# Altium footprint library Devices.PcbLib: 190 footprints (part 1 of 12)
Each footprint in its own frame and in the unit in brackets; x right, y up, seen from the top. Pads: shape width x height; smd on the part's side, far side on the other; paste and mask are expansions set on the pad; w line width, h text height; cw(c..) or ccw(c..) is an arc to the next point about the centre after c.
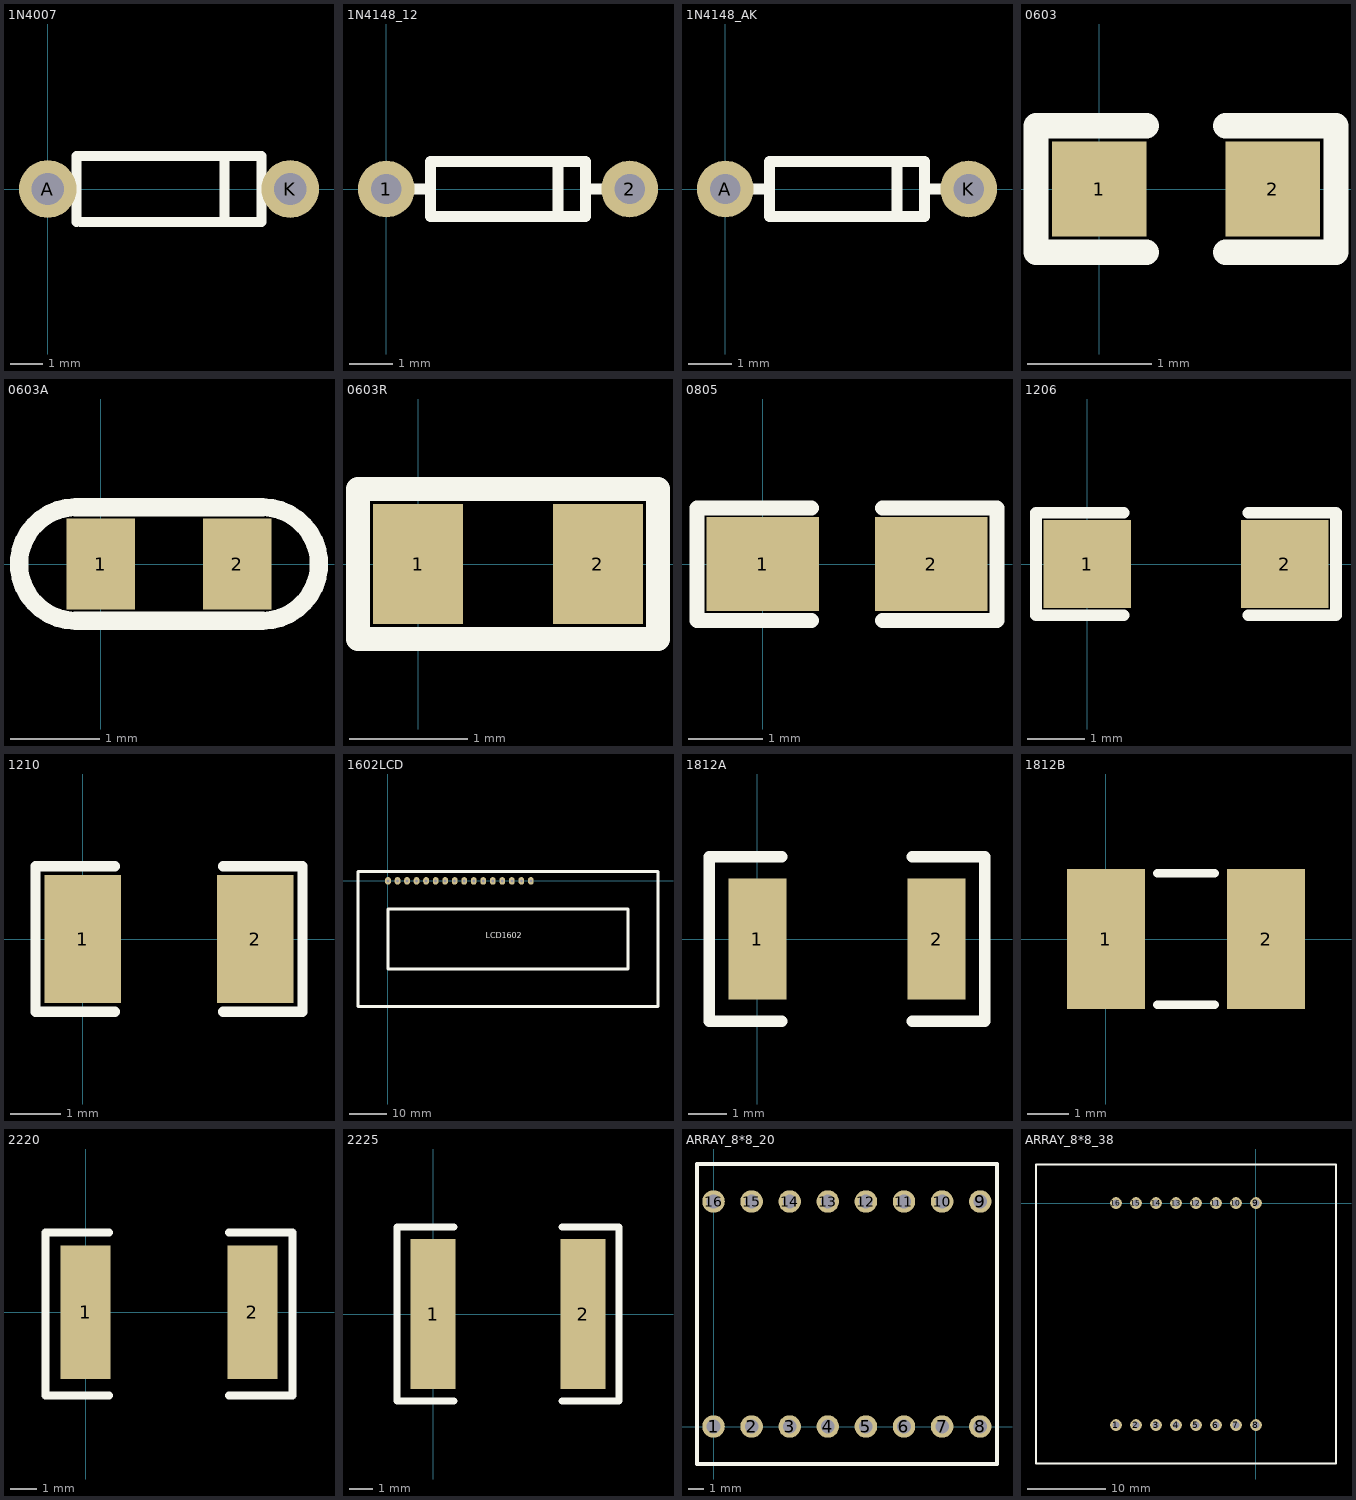
[diagram p0: the footprints below, top view; thin cyan lines are the x and y axes]

## 1N4007 [mil]
pads (2):
  round 70 hole 39.37: A(0,0) K(295,0)
Top Overlay:
  lines w12: 35,-40 35,40 260,40 260,-40 40,-40 ; 215,-40 215,40

## 1N4148_12 [mm]
pads (2):
  round 1.3 hole 0.7: 1(0,0) 2(5.588,0)
Top Overlay:
  lines w0.254: 0.635,0 1.016,0 ; 3.937,0.508 3.937,-0.635 3.937,0.635 ; 4.572,0 5.08,0 ; 1.016,-0.635 4.572,-0.635 4.572,0.635 1.016,0.635 1.016,-0.635

## 1N4148_AK [mm]
pads (2):
  round 1.3 hole 0.7: A(0,0) K(5.588,0)
Top Overlay:
  lines w0.254: 0.635,0 1.016,0 ; 3.937,0.508 3.937,-0.635 3.937,0.635 ; 4.572,0 5.08,0 ; 1.016,-0.635 1.016,0.635 4.572,0.635 4.572,-0.635 1.016,-0.635

## 0603 [mil]
pads (2):
  rect 30x30 smd: 1(0,0) 2(55,0)
Top Overlay:
  lines w8: 15,-20 -20,-20 -20,20 15,20 ; 40,-20 75,-20 75,20 40,20

## 0603A [mil]
pads (2):
  rect 30x40 smd: 1(0,0) 2(60,0)
Top Overlay:
  lines w8: -11,-25 cw(c-11,0) -11,25 71,25 cw(c71,0) 71,-25 -11,-25

## 0603R [mil]
pads (2):
  rect 30x40 smd: 1(0,0) 2(60,0)
Top Overlay:
  lines w8: -20,-25 80,-25 80,25 -20,25 -20,-25

## 0805 [mil]
pads (2):
  rect 60x50 smd: 1(0,0) 2(90,0)
Top Overlay:
  lines w8: 26,-30 -35,-30 -35,30 26,30 ; 64,-30 125,-30 125,30 64,30

## 1206 [mil]
pads (2):
  rect 60x60 smd: 1(0,0) 2(135,0)
Top Overlay:
  lines w8: 25,-35 -35,-35 -35,35 25,35 ; 110,-35 170,-35 170,35 110,35

## 1210 [mil]
pads (2):
  rect 60x100 smd: 1(0,0) 2(135,0)
Top Overlay:
  lines w8: 25,-57 -37,-57 -37,57 25,57 ; 110,-57 172,-57 172,57 110,57

## 1602LCD [mil] "LCD module 16*2 char"
pads (16):
  oval 60x80 hole 30: 1(0,0) 2(100,0) 3(200,0) 4(300,0) 5(400,0) 6(500,0) 7(600,0) 8(700,0) 9(800,0) 10(900,0) 11(1000,0) 12(1100,0) 13(1200,0) 14(1300,0) 15(1400,0) 16(1500,0)
Top Overlay:
  lines w30: -314.96,-1318.9 2834.65,-1318.9 2834.65,98.43 -314.96,98.43 -314.96,-1318.9 ; 0,-925.2 2519.69,-925.2 2519.69,-295.28 0,-295.28 0,-925.2
  text "LCD1602" at 1025.04,-601.57 h60

## 1812A [mil]
pads (2):
  rect 60x125 smd: 1(0,0) 2(185,0)
Top Overlay:
  lines w12: 25,-85 -50,-85 -50,85 25,85 ; 160,-85 235,-85 235,85 160,85

## 1812B [mm] "Chip Capacitor; Body 4.5 x 3.2 mm (LxW typ)"
height 1.1
pads (2):
  rect 1.9x3.4 smd: 1(0,0) 2(3.9,0)
Top Overlay:
  lines w0.2: 1.25,-1.6 2.65,-1.6 ; 1.25,1.6 2.65,1.6

## 2220 [mm]
pads (2):
  rect 1.905x5.08 smd: 1(0,0) 2(6.35,0)
Top Overlay:
  lines w0.305: 0.889,-3.175 -1.524,-3.175 -1.524,3.048 0.889,3.048 ; 5.461,-3.175 7.874,-3.175 7.874,3.048 5.461,3.048

## 2225 [mm]
pads (2):
  rect 1.905x6.35 smd: 1(0,0) 2(6.35,0)
Top Overlay:
  lines w0.305: 0.889,-3.683 -1.524,-3.683 -1.524,3.683 0.889,3.683 ; 5.461,-3.683 7.874,-3.683 7.874,3.683 5.461,3.683

## ARRAY_8*8_20 [mm]
height 6.7
pads (16):
  round 1.5 hole 0.9: 1(0,0) 2(2.54,0) 3(5.08,0) 4(7.62,0) 5(10.16,0) 6(12.7,0) 7(15.24,0) 8(17.78,0) 9(17.78,15) 10(15.24,15) 11(12.7,15) 12(10.16,15) 13(7.62,15) 14(5.08,15) 15(2.54,15) 16(0,15)
Top Overlay:
  lines w0.254: -1.1,-2.5 18.9,-2.5 18.9,17.5 -1.1,17.5 -1.1,-2.5

## ARRAY_8*8_38 [mm]
height 6.7
pads (16):
  round 1.5 hole 0.9: 1(-17.78,-28.194) 2(-15.24,-28.194) 3(-12.7,-28.194) 4(-10.16,-28.194) 5(-7.62,-28.194) 6(-5.08,-28.194) 7(-2.54,-28.194) 8(0,-28.194) 9(0,0) 10(-2.54,0) 11(-5.08,0) 12(-7.62,0) 13(-10.16,0) 14(-12.7,0) 15(-15.24,0) 16(-17.78,0)
Top Overlay:
  lines w0.254: -27.94,-33.075 10.16,-33.075 10.16,4.9 -27.94,4.9 -27.94,-33.075